# Altium footprint library AMT_MAG.PcbLib: 5 footprints
Each footprint in its own frame and in the unit in brackets; x right, y up, seen from the top. Pads: shape width x height; smd on the part's side, far side on the other; paste and mask are expansions set on the pad; w line width, h text height; cw(c..) or ccw(c..) is an arc to the next point about the centre after c.
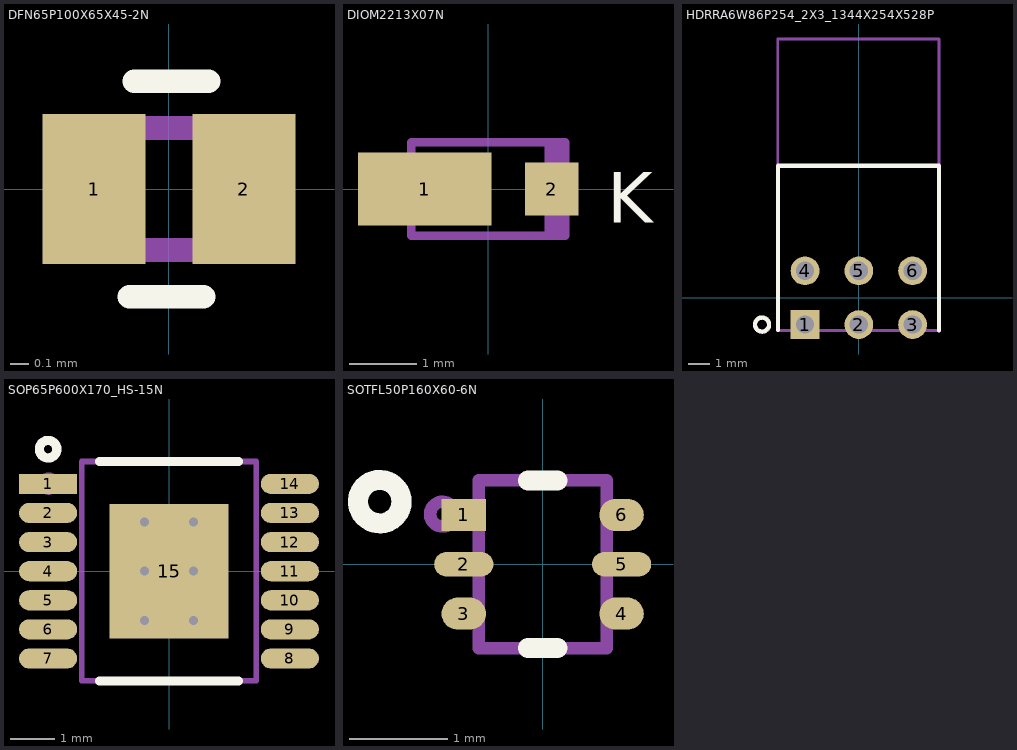
[diagram p0: the footprints below, top view; thin cyan lines are the x and y axes]

## DFN65P100X65X45-2N [mm] "DFN, 2-Leads, Body 0.60x1.00mm, Pitch 0.65mm, IPC Medium Density"
height 0.45
pads (2):
  rect 0.55x0.8 smd mask+0.076: 1(-0.4,0) 2(0.4,0)
Top Overlay:
  lines w0.127: -0.21,-0.575 0.185,-0.575 ; -0.185,0.575 0.21,0.575
Top Solder:
  region: 0.635,-0.381 0.635,0.381 -0.635,0.381 -0.635,-0.381
Mechanical 1:
  text "'.Designator'" at 0,0 h1.02
Mechanical 15:
  lines w0.127: -0.525,-0.325 -0.525,0.325 0.525,0.325 0.525,-0.325 -0.525,-0.325
3D body "DFN65P100X45-2N-1.step": height 0.45, standoff 0, extent -0.56,-0.325 0.56,0.325

## DIOM2213X07N [mm] "Molded Diode, 2-Leads, Body 2.20x1.30mm, IPC Medium Density"
height 0.73
pads (2):
  rect 2x1.1 smd: 1(-0.95,0)
  rect 0.8x0.8 smd: 2(0.95,0)
Top Overlay:
  text "K" at 1.778,-0.508 h0.76
Mechanical 1:
  text "'.Designator'" at 0,0 h1.52
Mechanical 15:
  rectangle: 0.841,-0.7 1.15,0.7
  lines w0.127: -1.15,-0.7 1.15,-0.7 1.15,0.7 -1.15,0.7 -1.15,-0.7
3D body "MSMP package.STEP": height 0.69, standoff 0.01, extent -1.339,-0.654 1.161,0.646

## HDRRA6W86P254_2X3_1344X254X528P [mm] "CONN HEADER R/A 6POS 2.54MM"
height 5.28
pads (6):
  rect 1.36x1.36 hole 0.86 mask+0.076: 1(-2.54,-1.27)
  round 1.36 hole 0.86 mask+0.076: 2(0,-1.27) 3(2.54,-1.27) 4(-2.54,1.27) 5(0,1.27) 6(2.54,1.27)
Top Overlay:
  circle w0.203: c-4.572,-1.27 r0.331
  lines w0.203: -3.812,-1.523 -3.812,6.224 3.785,6.224 3.785,-1.546
Mechanical 1:
  text ".Designator" at 0,0 h1.02
Mechanical 15:
  circle w0.127: c-2.54,-1.016 r0.254
  lines w0.127: -3.812,6.224 3.785,6.224 ; -3.835,-1.546 3.785,-1.546 3.785,12.214 -3.835,12.214 -3.835,-1.546
  text "PCB EDGE" at -2.921,6.604 h0.76
3D body "m20-9950345_asm.stp": height 4.54, standoff -3.54, extent -3.835,-1.546 3.785,12.214

## SOP65P600X170_HS-15N [mm] "SOP, 14-Leads, Body 4.90x3.90mm, Pitch 0.65mm, Thermal Pad 3.00x2.65mm, IPC Medium Density"
height 1.7
pads (15):
  rect 1.3x0.45 smd mask+0.064: 1(-2.7,1.95)
  oval 1.3x0.45 smd mask+0.064: 2(-2.7,1.3) 3(-2.7,0.65) 4(-2.7,0) 5(-2.7,-0.65) 6(-2.7,-1.3) 7(-2.7,-1.95) 8(2.7,-1.95) 9(2.7,-1.3) 10(2.7,-0.65) 11(2.7,0) 12(2.7,0.65) 13(2.7,1.3) 14(2.7,1.95)
  rect 2.65x3 smd: 15(0,0)
via -0.55,1.1 diameter 0.5 hole 0.2
via 0.55,1.1 diameter 0.5 hole 0.2
via -0.55,0 diameter 0.5 hole 0.2
via 0.55,0 diameter 0.5 hole 0.2
via -0.55,-1.1 diameter 0.5 hole 0.2
via 0.55,-1.1 diameter 0.5 hole 0.2
Top Overlay:
  circle w0.203: c-2.7,2.725 r0.196
  lines w0.203: -1.55,-2.45 1.55,-2.45 ; -1.55,2.45 1.55,2.45
Mechanical 1:
  text "'.Designator'" at 0,0 h1.52
Mechanical 15:
  circle w0.127: c-2.692,1.956 r0.187
  lines w0.127: -1.95,-2.45 -1.95,2.45 1.95,2.45 1.95,-2.45 -1.95,-2.45
3D body "SOP65P600X170_HS-15N.step": height 1.7, standoff 0, extent -3,-2.45 3,2.45

## SOTFL50P160X60-6N [mm] "SOTFL, 6-Leads, Body 1.60x1.60mm, Pitch 0.50mm, IPC Medium Density"
height 0.6
pads (6):
  rect 0.45x0.325 smd mask+0: 1(-0.8,0.5)
  oval 0.6x0.25 smd mask+0: 2(-0.8,0) 5(0.8,0)
  oval 0.45x0.325 smd mask+0: 3(-0.8,-0.5) 4(0.8,-0.5) 6(0.8,0.5)
Top Overlay:
  circle w0.203: c-1.651,0.635 r0.221
  lines w0.203: -0.15,-0.85 0.15,-0.85 ; -0.15,0.85 0.15,0.85
Top Solder:
  rectangle: -1.174,-0.757 -0.432,0.761
  rectangle: 0.426,-0.758 1.168,0.761
Mechanical 1:
  text "'.Designator'" at 0,0 h0.76
Mechanical 15:
  circle w0.127: c-1.016,0.508 r0.125
  lines w0.127: -0.65,-0.85 -0.65,0.85 0.65,0.85 0.65,-0.85 -0.65,-0.85
3D body "SOT666.step": height 0.57, standoff 0, extent -0.8,-0.8 0.8,0.8